# Altium footprint library DIODE.PcbLib: 1 footprints
Each footprint in its own frame and in the unit in brackets; x right, y up, seen from the top. Pads: shape width x height; smd on the part's side, far side on the other; paste and mask are expansions set on the pad; w line width, h text height; cw(c..) or ccw(c..) is an arc to the next point about the centre after c.
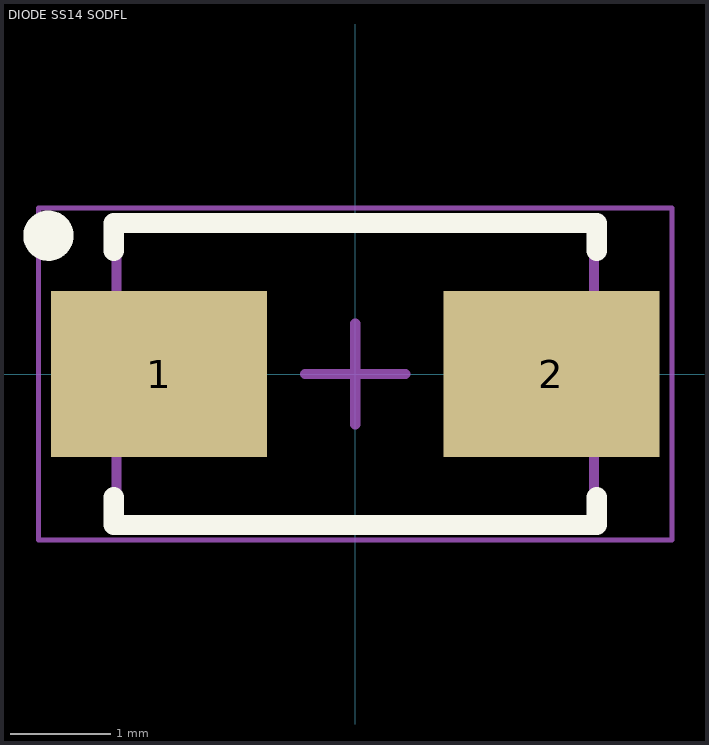
[diagram p0: the footprint, top view; thin cyan lines are the x and y axes]

## DIODE SS14 SODFL [mm] "SODFL, 2-Leads, Body 2,73x5,20mm, IPC Medium Density"
height 2.7
pads (2):
  rect 2.15x1.65 smd: 1(-1.95,0) 2(1.95,0)
Top Overlay:
  circle w0.25: c-3.05,1.375 r0.125
  lines w0.2: -2.4,-1.225 -2.4,-1.5 2.4,-1.5 2.4,-1.225 ; -2.4,1.225 -2.4,1.5 2.4,1.5 2.4,1.225
Mechanical 13:
  lines w0.1: -2.375,-1.475 2.375,-1.475 2.375,1.475 -2.375,1.475 -2.375,-1.475
Mechanical 15:
  lines w0.05: -3.15,-1.65 3.15,-1.65 3.15,1.65 -3.15,1.65 -3.15,-1.65
  lines w0.1: -0.5,0 0.5,0 ; 0,-0.5 0,0.5
3D body: height 2.7, standoff 0, extent -2.375,-1.475 2.375,1.475